# EAGLE library part BME280 (library Bikota)
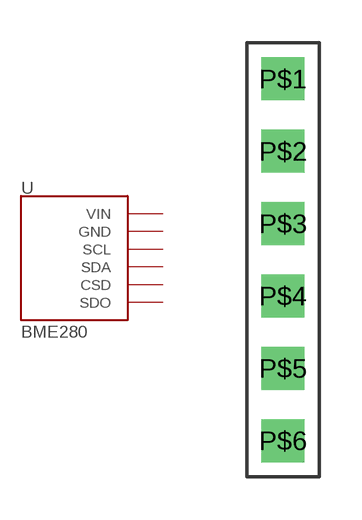
[diagram p2: symbol with the pads of BME280; footprint BME280]

Designator prefix -

## BME280  [BME280]
P$1  VIN  pwr
P$2  GND  pwr
P$3  SCL
P$4  SDA
P$5  CSD
P$6  SDO

## Footprint BME280 (pad centres in mm)
drill 1 square: P$1 0,6.35; P$2 0,3.81; P$3 0,1.27; P$4 0,-1.27; P$5 0,-3.81; P$6 0,-6.35